# EAGLE library part 4CH-MIXER-3364-2 (library XM8)
Xonik 4 channel voltage controlled linear mixer with external input
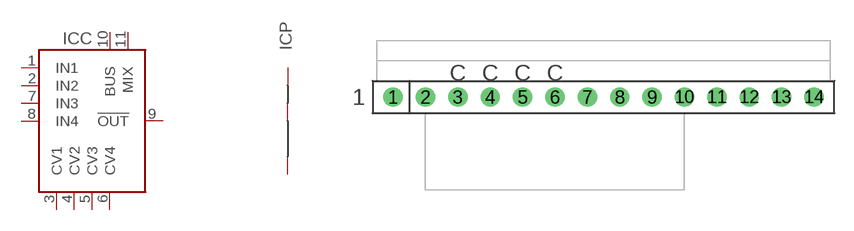
[diagram p16: symbol with the pads of XM8-4CH-MIXER-3364-V; footprint XM8-4CH-MIXER-3364-V]

Designator prefix IC; gates P=XM8-PWR C=XM8-MIXER-3364-V1.0

## 4CH-MIXER-3364-2  [XM8-4CH-MIXER-3364-V]
1  C:IN1
2  C:IN2
3  C:CV1
4  C:CV2
5  C:CV3
6  C:CV4
7  C:IN3
8  C:IN4
9  C:!OUT
10  C:BUS
11  C:MIX
12  P:-V  pwr
13  P:+V  pwr
14  P:AGND  pwr

## Footprint XM8-4CH-MIXER-3364-V (pad centres in mm)
Xonik 4 channel linear mixer (AS3364), vertical mount
drill 1.016: 1 -16.51,0; 2 -13.97,0; 3 -11.43,0; 4 -8.89,0; 5 -6.35,0; 6 -3.81,0; 7 -1.27,0; 8 1.27,0; 9 3.81,0; 10 6.35,0; 11 8.89,0; 12 11.43,0; 13 13.97,0; 14 16.51,0